# Altium footprint library SparkFun-Resistors.PCBLIB: 35 footprints (part 1 of 3)
Each footprint in its own frame and in the unit in brackets; x right, y up, seen from the top. Pads: shape width x height; smd on the part's side, far side on the other; paste and mask are expansions set on the pad; w line width, h text height; cw(c..) or ccw(c..) is an arc to the next point about the centre after c.
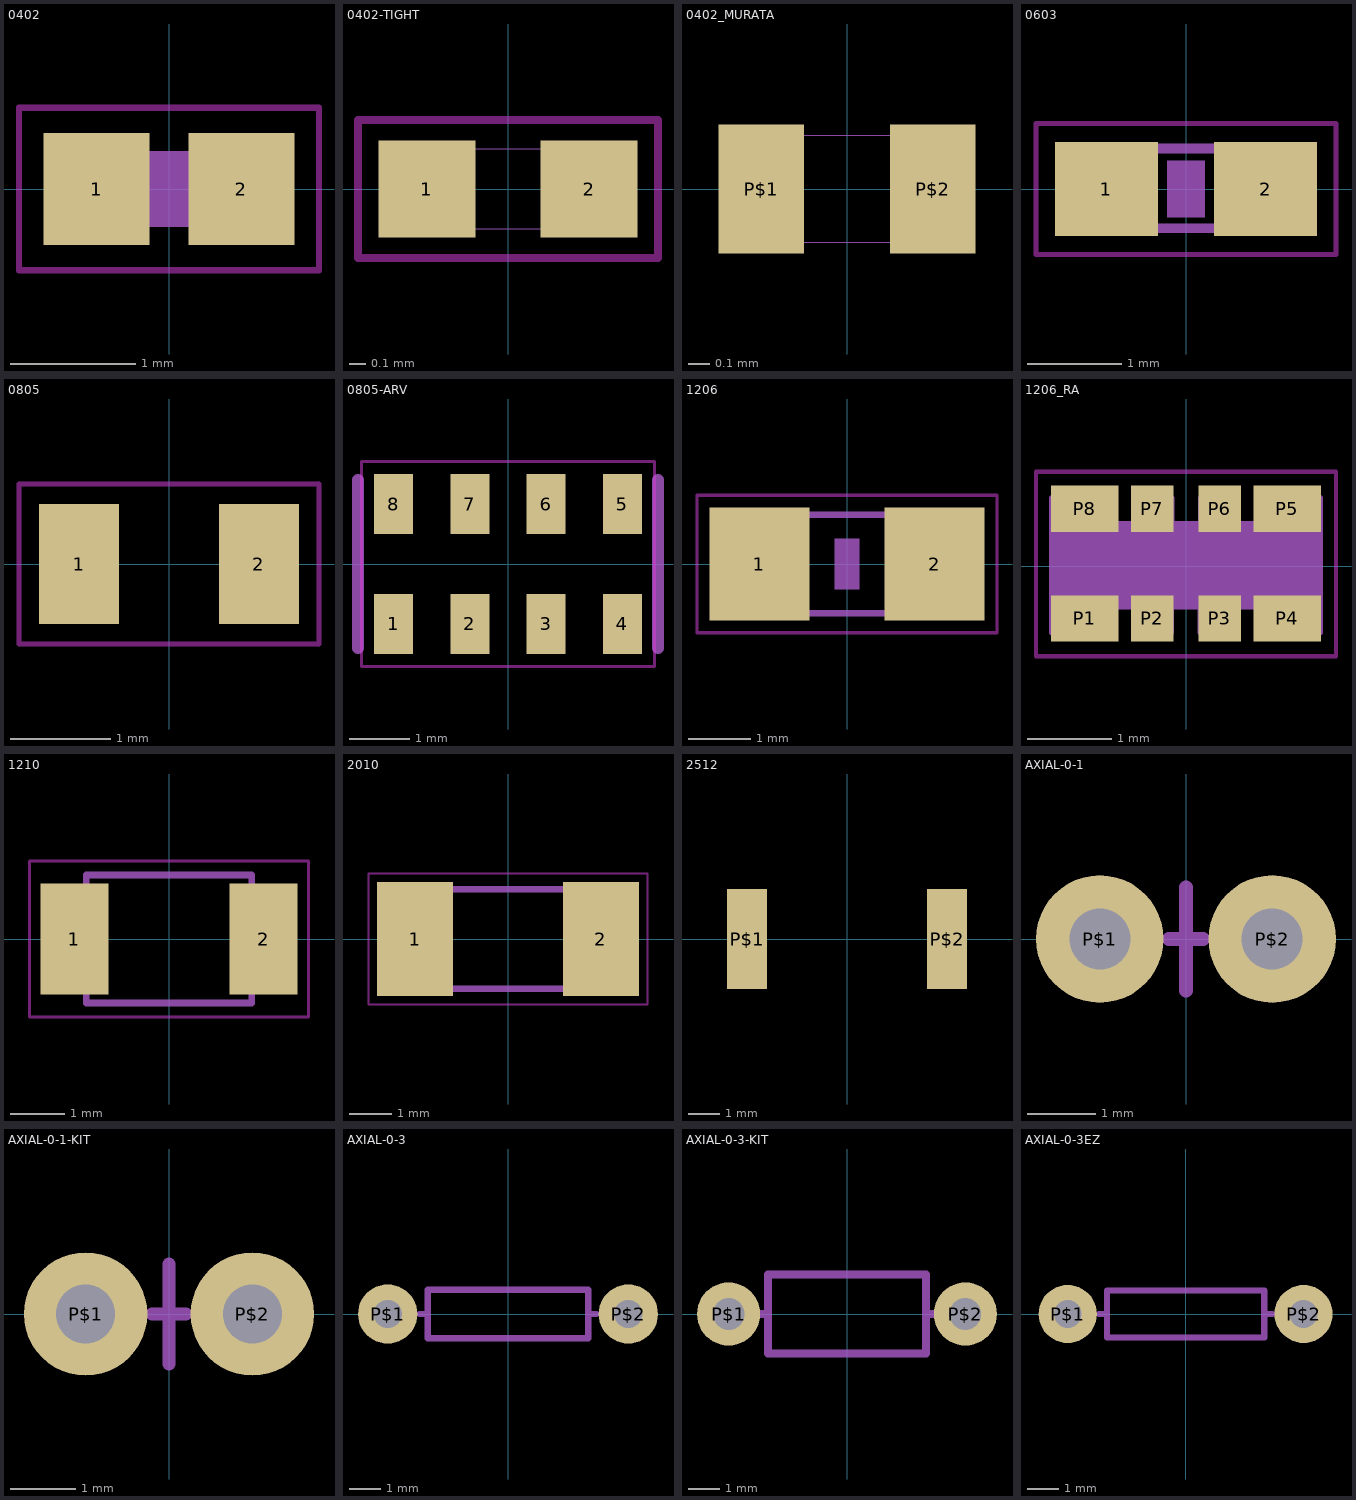
[diagram p0: the footprints below, top view; thin cyan lines are the x and y axes]

## 0402 [mm]
pads (2):
  rect 0.85x0.9 smd: 1(-0.58,0) 2(0.58,0)
Top keep-out:
  lines w0.051: -1.2,-0.65 1.2,-0.65 1.2,0.65 -1.2,0.65 -1.2,-0.65
tDocu:
  region: -0.554,-0.305 -0.554,0.305 -0.254,0.305 -0.254,-0.305
  region: 0.259,-0.305 0.259,0.305 0.559,0.305 0.559,-0.305
  lines w0.152: -0.271,-0.229 0.271,-0.229 ; -0.271,0.229 0.271,0.229
tGlue:
  region: -0.2,-0.3 -0.2,0.3 0.2,0.3 0.2,-0.3

## 0402-TIGHT [mm]
pads (2):
  rect 0.6x0.6 smd: 1(-0.5,0) 2(0.5,0)
Top keep-out:
  lines w0.05: -0.926,-0.426 -0.926,0.426 0.926,0.426 0.926,-0.426 -0.926,-0.426
tDocu:
  region: -0.5,-0.25 -0.5,0.25 -0.3,0.25 -0.3,-0.25
  region: 0.5,0.25 0.5,-0.25 0.3,-0.25 0.3,0.25
  lines w0.003: -0.5,-0.25 -0.5,0.25 0.5,0.25 0.5,-0.25 -0.5,-0.25

## 0402_MURATA [mm]
pads (2):
  rect 0.4x0.6 smd mask+0: P$1(-0.4,0) P$2(0.4,0)
Top Solder:
  region: -0.6,-0.3 -0.6,0.3 -0.2,0.3 -0.2,-0.3
  region: 0.2,-0.3 0.2,0.3 0.6,0.3 0.6,-0.3
tDocu:
  region: -0.5,-0.25 -0.5,0.25 -0.3,0.25 -0.3,-0.25
  region: 0.5,0.25 0.5,-0.25 0.3,-0.25 0.3,0.25
  lines w0.003: -0.5,-0.25 -0.5,0.25 0.5,0.25 0.5,-0.25 -0.5,-0.25

## 0603 [mm]
pads (2):
  rect 1.1x1 smd: 1(-0.85,0) 2(0.85,0)
Top keep-out:
  lines w0.051: -1.6,-0.7 1.6,-0.7 1.6,0.7 -1.6,0.7 -1.6,-0.7
tDocu:
  region: -0.838,-0.47 -0.838,0.48 -0.338,0.48 -0.338,-0.47
  region: 0.33,-0.47 0.33,0.48 0.83,0.48 0.83,-0.47
  lines w0.102: -0.356,-0.419 0.356,-0.419 ; -0.356,0.432 0.356,0.432
tGlue:
  region: -0.2,-0.3 -0.2,0.3 0.2,0.3 0.2,-0.3

## 0805 [mil]
pads (2):
  rect 31.5x47.24 smd: 1(-35.43,0) 2(35.43,0)
Top keep-out:
  lines w2: -59.06,-31.5 59.06,-31.5 59.06,31.5 -59.06,31.5 -59.06,-31.5

## 0805-ARV [mm]
pads (8):
  rect 0.65x1 smd: 1(-1.905,-1) 2(-0.635,-1) 3(0.635,-1) 4(1.905,-1) 5(1.905,1) 6(0.635,1) 7(-0.635,1) 8(-1.905,1)
Top keep-out:
  lines w0.051: -2.438,-1.712 2.438,-1.712 2.438,1.712 -2.438,1.712 -2.438,-1.712
tPlace:
  lines w0.203: -2.5,-1.4 -2.5,1.4 ; 2.5,-1.4 2.5,1.4

## 1206 [mm]
pads (2):
  rect 1.6x1.8 smd: 1(-1.4,0) 2(1.4,0)
Top keep-out:
  lines w0.051: -2.4,-1.1 2.4,-1.1 2.4,1.1 -2.4,1.1 -2.4,-1.1
tDocu:
  region: -1.702,-0.851 -1.702,0.849 -0.952,0.849 -0.952,-0.851
  region: 0.952,-0.849 0.952,0.851 1.702,0.851 1.702,-0.849
  lines w0.102: -0.965,-0.787 0.965,-0.787 ; -0.965,0.787 0.965,0.787
tGlue:
  region: -0.2,-0.4 -0.2,0.4 0.2,0.4 0.2,-0.4

## 1206_RA [mm]
pads (8):
  rect 0.8x0.55 smd mask+0: P1(-1.2,-0.62) P4(1.2,-0.62) P5(1.2,0.68) P8(-1.2,0.68)
  rect 0.5x0.55 smd mask+0: P2(-0.4,-0.62) P3(0.4,-0.62) P6(0.4,0.68) P7(-0.4,0.68)
Top keep-out:
  lines w0.051: -1.778,-1.067 -1.778,1.118 1.778,1.118 1.778,-1.067 -1.778,-1.067
Top Solder:
  region: -1.62,0.38 -1.62,1 -0.78,1 -0.78,0.38
  region: -0.68,0.38 -0.68,1 -0.12,1 -0.12,0.38
  region: 0.12,0.38 0.12,1 0.68,1 0.68,0.38
  region: -1.62,-0.94 -1.62,-0.32 -0.78,-0.32 -0.78,-0.94
  region: -0.68,-0.94 -0.68,-0.32 -0.12,-0.32 -0.12,-0.94
  region: 0.12,-0.94 0.12,-0.32 0.68,-0.32 0.68,-0.94
  region: 0.78,-0.94 0.78,-0.3 1.62,-0.3 1.62,-0.94
  region: 0.78,0.38 0.78,1 1.62,1 1.62,0.38
tDocu:
  region: -1.59,-0.48 -1.59,0.52 1.61,0.52 1.61,-0.48
  lines w0.05: -1.6,-0.79 -0.95,-0.79 -0.95,-0.49 -0.62,-0.49 -0.62,-0.79 -0.17,-0.79 -0.17,-0.49 0.16,-0.49 0.16,-0.79 0.61,-0.79 0.61,-0.49 0.94,-0.49 0.94,-0.79 1.6,-0.79 1.6,0.81 0.95,0.81 0.95,0.51 0.62,0.51 0.62,0.81 0.17,0.81 0.17,0.51 -0.16,0.51 -0.16,0.81 -0.61,0.81 -0.61,0.51 -0.94,0.51 -0.94,0.81 -1.6,0.81
  lines w0.051: -1.6,-0.79 -1.6,0.81

## 1210 [mm]
pads (2):
  rect 1.27x2.06 smd: 1(-1.755,0) 2(1.755,0)
Top keep-out:
  lines w0.051: -2.59,-1.45 2.59,-1.45 2.59,1.45 -2.59,1.45 -2.59,-1.45
tDocu:
  lines w0.127: -1.536,-1.186 1.536,-1.186 1.536,1.186 -1.536,1.186 -1.536,-1.186

## 2010 [mm]
pads (2):
  rect 1.8x2.7 smd: 1(-2.2,0) 2(2.2,0)
Top keep-out:
  lines w0.051: -3.3,-1.55 3.3,-1.55 3.3,1.55 -3.3,1.55 -3.3,-1.55
tDocu:
  region: -2.5,-1.25 -2.5,1.25 -1.639,1.25 -1.639,-1.25
  region: 1.651,-1.25 1.651,1.25 2.5,1.25 2.5,-1.25
  lines w0.152: -1.789,1.174 1.789,1.174 ; -1.764,-1.174 1.814,-1.174

## 2512 [mm]
pads (2):
  rect 1.27x3.175 smd: P$1(-3.175,0) P$2(3.175,0)

## AXIAL-0-1 [mil]
pads (2):
  round 74 hole 35.43: P$1(-50,0) P$2(50,0)
tPlace:
  lines w8: -10,0 0,0 ; 0,-30 0,0 ; 0,30 0,0 ; 10,0 0,0

## AXIAL-0-1-KIT [mil]
pads (2):
  round 74 hole 35.43: P$1(-50,0) P$2(50,0)
Top Solder:
  circle w0: c-50,0 r18
  circle w0: c-50,0 r18
  circle w0: c50,0 r18
Bottom Solder:
  circle w0: c-50,0 r40
  circle w0: c50,0 r40
tPlace:
  lines w8: -10,0 0,0 ; 0,-30 0,0 ; 0,30 0,0 ; 10,0 0,0

## AXIAL-0-3 [mil]
pads (2):
  round 74 hole 35.43: P$1(-150,0) P$2(150,0)
tPlace:
  lines w8: -110,0 -100,0 ; 110,0 100,0 ; -100,0 -100,-30 100,-30 100,0 ; -100,0 -100,30 100,30 100,0

## AXIAL-0-3-KIT [mil]
pads (2):
  round 80 hole 40: P$1(-150,0) P$2(150,0)
Top Solder:
  region: 150.3,-17.2 146.9,-17.28 140.55,-14.82 135.63,-10.13 132.88,-3.9 132.8,-0.5 132.71,3.07 135.28,9.74 140.2,14.91 146.73,17.81 150.3,17.9 153.82,17.84 160.28,15.04 165.18,9.97 167.76,3.42 167.7,-0.1 167.67,-3.53 164.99,-9.85 160.09,-14.66 153.73,-17.23 150.3,-17.2
  region: -150,-17.5 -153.4,-17.58 -159.75,-15.12 -164.67,-10.43 -167.42,-4.2 -167.5,-0.8 -167.59,2.77 -165.02,9.44 -160.1,14.61 -153.57,17.51 -150,17.6 -146.48,17.54 -140.02,14.74 -135.12,9.67 -132.54,3.12 -132.6,-0.4 -132.63,-3.83 -135.31,-10.15 -140.21,-14.96 -146.57,-17.53 -150,-17.5
Bottom Solder:
  region: 150.4,-37.2 146.75,-37.25 139.56,-35.92 132.77,-33.21 126.64,-29.24 121.4,-24.14 117.26,-18.12 114.37,-11.4 112.85,-4.25 112.8,-0.6 112.76,3.14 114.13,10.49 116.9,17.43 120.98,23.69 126.21,29.04 132.37,33.27 139.25,36.21 146.56,37.76 150.3,37.8 154.04,37.75 161.35,36.18 168.21,33.22 174.37,28.98 179.58,23.61 183.64,17.34 186.4,10.39 187.75,3.04 187.7,-0.7 187.66,-4.33 186.17,-11.45 183.31,-18.13 179.21,-24.14 174.01,-29.22 167.93,-33.19 161.18,-35.9 154.03,-37.24 150.4,-37.2
  region: -149.9,-37.5 -153.55,-37.55 -160.74,-36.22 -167.53,-33.51 -173.66,-29.54 -178.9,-24.44 -183.04,-18.42 -185.93,-11.7 -187.45,-4.55 -187.5,-0.9 -187.54,2.84 -186.17,10.19 -183.4,17.13 -179.32,23.39 -174.09,28.74 -167.93,32.97 -161.05,35.91 -153.74,37.46 -150,37.5 -146.26,37.45 -138.95,35.88 -132.09,32.92 -125.93,28.68 -120.72,23.31 -116.66,17.04 -113.9,10.09 -112.55,2.74 -112.6,-1 -112.64,-4.63 -114.13,-11.75 -116.99,-18.43 -121.09,-24.44 -126.29,-29.52 -132.37,-33.49 -139.12,-36.2 -146.27,-37.54 -149.9,-37.5
tPlace:
  lines w10: -110,0 -100,0 ; 110,0 100,0 ; -100,0 -100,-50 100,-50 100,0 ; -100,0 -100,50 100,50 100,0

## AXIAL-0-3EZ [mil]
pads (2):
  round 74 hole 35.43: P$1(-150,0) P$2(150,0)
Top Solder:
  circle w0: c-150,0 r20
  circle w0: c150,0 r20.62
Bottom Solder:
  circle w0: c-150,0 r40.31
  circle w0: c150,0 r41.23
tPlace:
  lines w8: -110,0 -100,0 ; 110,0 100,0 ; -100,0 -100,-30 100,-30 100,0 ; -100,0 -100,30 100,30 100,0